# Altium footprint library DG300-5.0-02P-12.PcbLib: 1 footprints
Each footprint in its own frame and in the unit in brackets; x right, y up, seen from the top. Pads: shape width x height; smd on the part's side, far side on the other; paste and mask are expansions set on the pad; w line width, h text height; cw(c..) or ccw(c..) is an arc to the next point about the centre after c.
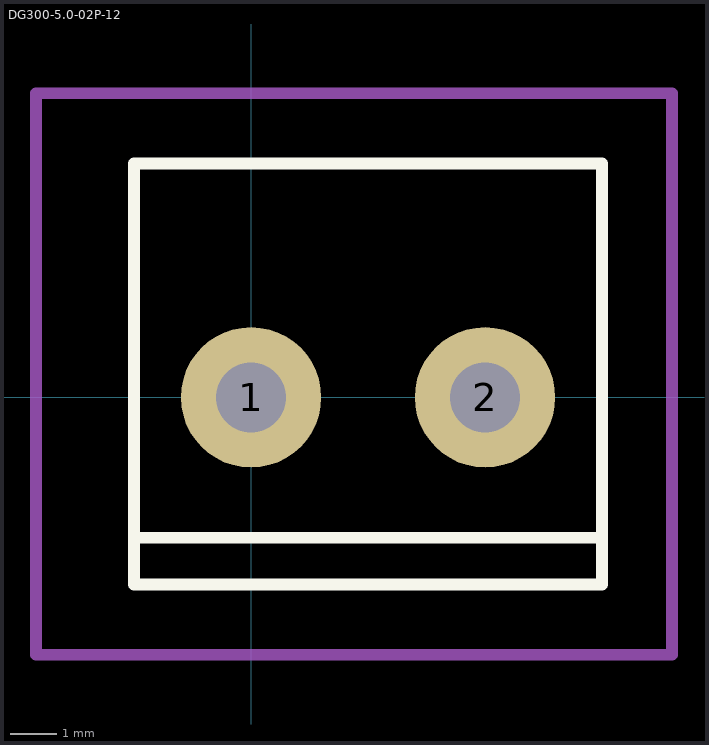
[diagram p0: the footprint, top view; thin cyan lines are the x and y axes]

## DG300-5.0-02P-12 [mm]
height 12.6
pads (2):
  round 3 hole 1.5: 1(0,0) 2(5,0)
Top Overlay:
  lines w0.25: -2.5,-4 -2.5,5 7.5,5 7.5,-4 -2.5,-4
  lines w0.254: -2.5,-3 7.5,-3
Mechanical 15:
  lines w0.254: -4.6,-5.5 -4.6,6.5 9,6.5 9,-5.5 -4.6,-5.5
3D body "DG300-5.0-02p-12.stp": height 12.6, standoff -3, extent -3.1,-4 7.5,5